# Altium schematic symbol library 13.Transformers.SchLib: 9 symbols
Pins are listed as number, name and electrical type; pins without a type are passive.

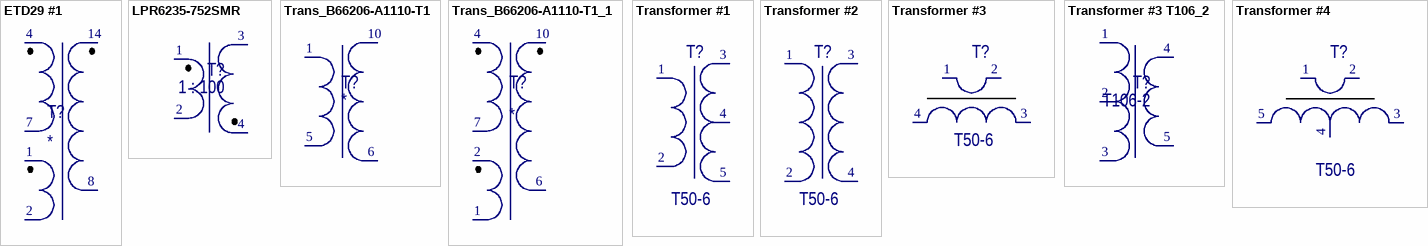
[diagram p0: symbols ETD29 #1 to Transformer #4]

## ETD29 #1
designator T?
footprint ETD29/16/10
pins: 1, 2, 4, 7, 8, 14

## LPR6235-752SMR
designator T?, comment 1 : 100
Coupled Inductor
footprint LPR6235
pins: 1, 2, 3, 4

## Trans_B66206-A1110-T1
designator T?
footprint B66206-A1110-T1
pins: 1, 5, 6, 10

## Trans_B66206-A1110-T1_1
designator T?
footprint B66206-A1110-T1
pins: 1, 2, 4, 6, 7, 10

## Transformer #1
designator T?, comment T50-6
footprint T50-6 -  trans#1
pins: 1, 2, 3, 4, 5

## Transformer #2
designator T?, comment T50-6
footprint T50-6 -  trans#2
pins: 1, 2, 3, 4

## Transformer #3
designator T?, comment T50-6
footprint T50-6_T1
pins: 1, 2, 3, 4

## Transformer #3 T106_2
designator T?, comment T106-2
footprint T106-2
pins: 1, 2, 3, 4, 5

## Transformer #4
designator T?, comment T50-6
footprint T50-6_T2
pins: 1, 2, 3, 4, 5